# Altium schematic symbol library Petter_lib.SchLib: 4 symbols
Pins are listed as number, name and electrical type; pins without a type are passive.

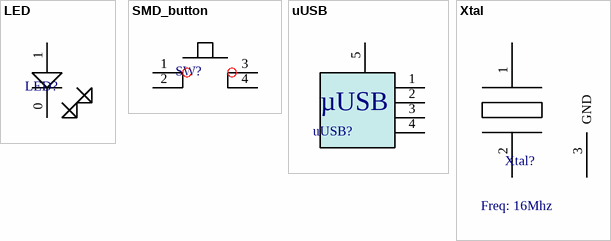
[diagram p0: symbols LED to Xtal]

## LED
designator LED?  (value not drawn)
footprint R3216-1206 (SMD 3216 - 1206); pin to pad 0>1 1>2
pins: 0 "-", 1 "+"

## SMD_button
designator SW?
Smd button
footprint SMD_SW
pins: 1, 2, 3, 4

## uUSB
designator uUSB?
microusb, smd
footprint uUSB
pins: 1 (power), 2, 3, 4, 5
text: µUSB

## Xtal
designator Xtal?  Freq: 16Mhz  (hidden comment: *)
footprint Xtal; pin to pad 2>3 3>2
pins: 1, 2, 3 GND